# Altium schematic symbol library mcp4822t-e_sn.SchLib: 1 symbol
Pins are listed as number, name and electrical type; pins without a type are passive.

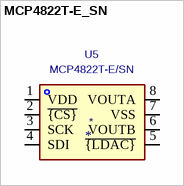
[diagram p0: symbol MCP4822T-E_SN]

## MCP4822T-E_SN
designator *  value MCP4822T-E/SN  Reference: U5
Footprint: easyeda2kicad:SOIC-8_L4.9-W3.9-P1.27-LS6.0-BL; LCSC Part: C623653
pins: 1 VDD, 2 ~{{CS}}, 3 SCK, 4 SDI, 5 ~{{LDAC}}, 6 VOUTB, 7 VSS, 8 VOUTA